# Altium footprint library LED.PcbLib: 17 footprints (part 2 of 2)
Each footprint in its own frame and in the unit in brackets; x right, y up, seen from the top. Pads: shape width x height; smd on the part's side, far side on the other; paste and mask are expansions set on the pad; w line width, h text height; cw(c..) or ccw(c..) is an arc to the next point about the centre after c.
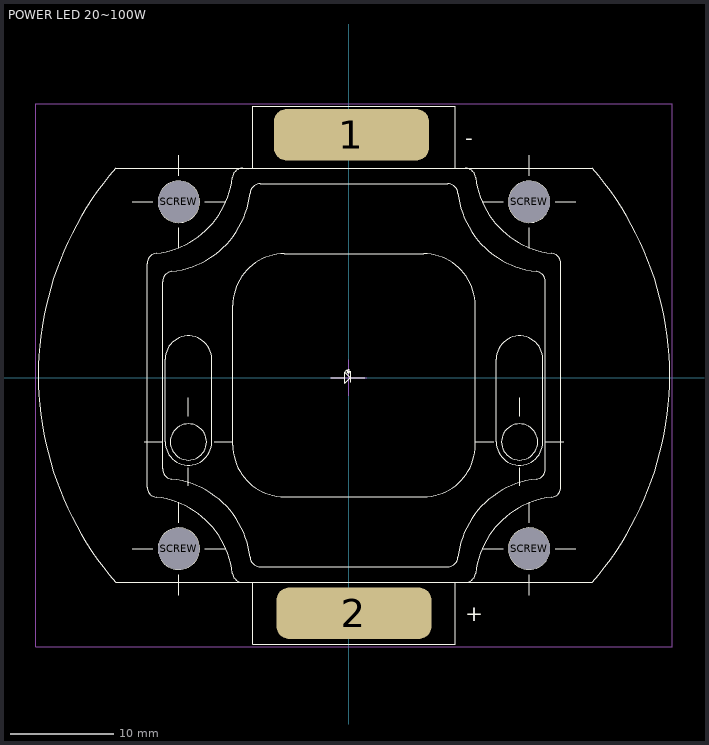
[diagram p1: the footprint, top view; thin cyan lines are the x and y axes]

## POWER LED 20~100W [mm] "DESIGNER ABBAS BASEREH"
height 5
pads (6):
  rrect50% 15x5 smd: 1(0.25,23.5) 2(0.5,-22.75)
  round 4 hole 4: SCREW(-16.431,-16.508) SCREW(-16.431,17.008) SCREW(17.431,-16.508) SCREW(17.431,17.008)
Top Overlay:
  circle w0.013: c16.5,-6.197 r1.75
  circle w0.013: c-15.5,-6.197 r1.75
  circle w0.013: c-4.442,23.25 r1
  circle w0.013: c0.5,23.25 r1
  circle w0.013: c5.558,23.25 r1
  circle w0.013: c0.5,-22.75 r1
  circle w0.013: c5.5,-22.75 r1
  circle w0.013: c-4.5,-22.75 r1
  circle w0.013: c17.431,17.008 r2
  circle w0.013: c17.431,-16.508 r2
  circle w0.013: c-16.431,17.008 r2
  circle w0.013: c-16.431,-16.508 r2
  region: 0.041,0.642 0.175,0.642 0.175,0.508
  region: -0.109,0.817 0.025,0.817 0.025,0.683
  lines w0.013: -20.931,-16.508 -18.931,-16.508 ; -20.931,17.008 -18.931,17.008 ; -19.75,-6.197 -18,-6.197 ; -16.431,-21.008 -16.431,-19.008 ; -16.431,-14.008 -16.431,-12.008 ; -16.431,12.508 -16.431,14.508 ; -16.431,19.508 -16.431,21.508 ; -15.5,-10.447 -15.5,-8.697 ; -15.5,-3.697 -15.5,-1.947 ; -13.931,-16.508 -11.931,-16.508 ; -13.931,17.008 -11.931,17.008 ; -13,-6.197 -11.25,-6.197 ; -9.275,-19.75 -9.275,-25.75 10.275,-25.75 10.275,-19.75 ; -9.275,20.25 -9.275,26.25 10.275,26.25 10.275,20.25 ; 12.25,-6.197 14,-6.197 ; 12.931,-16.508 14.931,-16.508 ; 12.931,17.008 14.931,17.008 ; 16.5,-10.447 16.5,-8.697 ; 16.5,-3.697 16.5,-1.947 ; 17.431,-21.008 17.431,-19.008 ; 17.431,-14.008 17.431,-12.008 ; 17.431,12.508 17.431,14.508 ; 17.431,19.508 17.431,21.508 ; 19,-6.197 20.75,-6.197 ; 19.931,-16.508 21.931,-16.508 ; 19.931,17.008 21.931,17.008 ; -10.275,-19.75 cw(c-10.275,-18.75) -11.269,-18.861 ccw(c-19.5,-19.777) -18.608,-11.544 cw(c-18.5,-10.549) -19.5,-10.549 -19.5,11.049 cw(c-18.5,11.049) -18.608,12.044 ccw(c-19.5,20.277) -11.269,19.361 cw(c-10.275,19.25) -10.275,20.25 ; -10.275,-19.75 11.275,-19.75 ; -10.275,-19.75 -22.535,-19.75 cw(c0.5,0.25) -22.535,20.25 -10.275,20.25 ; -10.275,20.25 11.275,20.25 ; 11.275,-19.75 ccw(c11.275,-18.75) 12.269,-18.861 cw(c20.5,-19.777) 19.608,-11.544 ccw(c19.5,-10.549) 20.5,-10.549 20.5,11.049 ccw(c19.5,11.049) 19.608,12.044 cw(c20.5,20.277) 12.269,19.361 ccw(c11.275,19.25) 11.275,20.25 ; 11.275,-19.75 23.535,-19.75 ccw(c0.5,0.25) 23.535,20.25 11.275,20.25 ; -18,-8.803 ccw(c-17,-8.803) -17.105,-9.797 cw(c-18,-18.25) -9.547,-17.355 ccw(c-8.553,-17.25) -8.553,-18.25 9.553,-18.25 ccw(c9.553,-17.25) 10.547,-17.355 cw(c19,-18.25) 18.105,-9.797 ccw(c18,-8.803) 19,-8.803 19,9.303 ccw(c18,9.303) 18.105,10.297 cw(c19,18.75) 10.547,17.855 ccw(c9.553,17.75) 9.553,18.75 -8.553,18.75 ccw(c-8.553,17.75) -9.547,17.855 cw(c-18,18.75) -17.105,10.297 ccw(c-17,9.303) -18,9.303 -18,-8.803 ; -17.75,-6.197 ccw(c-15.5,-6.197) -13.25,-6.197 -13.25,1.803 ccw(c-15.5,1.803) -17.75,1.803 -17.75,-6.197 ; -11.218,-6.495 ccw(c-6.218,-6.495) -6.218,-11.495 7.218,-11.495 ccw(c7.218,-6.495) 12.218,-6.495 12.218,6.995 ccw(c7.218,6.995) 7.218,11.995 -6.218,11.995 ccw(c-6.218,6.995) -11.218,6.995 -11.218,-6.495 ; 14.25,-6.197 ccw(c16.5,-6.197) 18.75,-6.197 18.75,1.803 ccw(c16.5,1.803) 14.25,1.803 14.25,-6.197
  lines w0.051: -1.77,0.025 -0.416,0.025 ; -0.325,0.65 -0.175,0.8 -0.175,0.625 ; -0.175,0.475 -0.025,0.625 -0.025,0.45 ; -0.167,0.625 -0.042,0.75 ; -0.017,0.45 0.108,0.575 ; 0.175,-0.425 0.175,0.475 ; 0.175,0.025 1.55,0.025 ; -0.391,-0.541 -0.391,0.546 0.153,0.003 -0.391,-0.541
  text "+" at 11.25,-23.5 h1.52
  text "-" at 11.25,22.5 h1.52
Mechanical 15:
  lines w0.1: -1.75,0 1.75,0 ; 0,-1.75 0,1.75 ; -30.25,-26 31.25,-26 31.25,26.5 -30.25,26.5 -30.25,-26
3D body "APPLICATION LED-50w - 100w.STEP": height 4.4, standoff 0, extent -30.006,-25.75 31.006,26.25